# EAGLE library part DALE-MDP1605 (library dms-rcl)
14-resistor dual-rail termination network
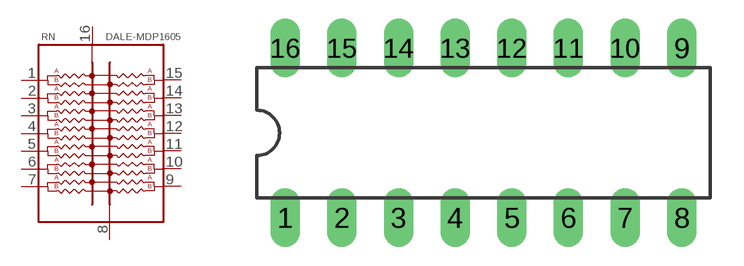
[diagram p0: symbol with the pads of DIL16; footprint DIL16]

Designator prefix RN

## DALE-MDP1605  [DIL16]
1  R1  pas
2  R2  pas
3  R3  pas
4  R4  pas
5  R5  pas
6  R6  pas
7  R7  pas
8  B  pas
9  R8  pas
10  R9  pas
11  R10  pas
12  R11  pas
13  R12  pas
14  R13  pas
15  R14  pas
16  A  pas

## Footprint DIL16 (pad centres in mm)
Dual In Line Package
drill 0.813 long: 1 -8.89,-3.81; 2 -6.35,-3.81; 3 -3.81,-3.81; 4 -1.27,-3.81; 5 1.27,-3.81; 6 3.81,-3.81; 7 6.35,-3.81; 8 8.89,-3.81; 9 8.89,3.81; 10 6.35,3.81; 11 3.81,3.81; 12 1.27,3.81; 13 -1.27,3.81; 14 -3.81,3.81; 15 -6.35,3.81; 16 -8.89,3.81